# Altium schematic symbol library WR-WSP.SchLib: 25 symbols
Pins are listed as number, name and electrical type; pins without a type are passive.

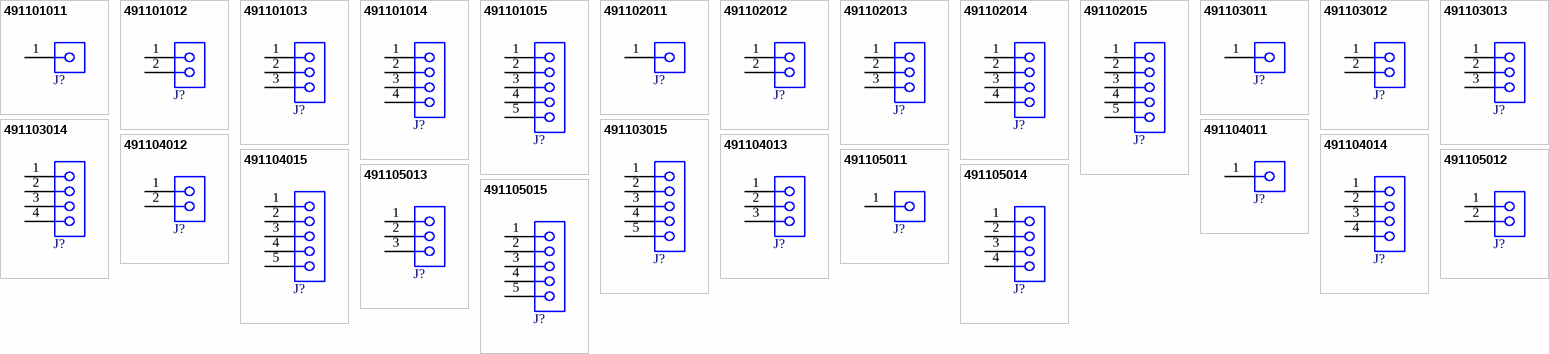
[diagram p0: symbols 491101011 to 491105015]

## 491101011
designator J?  (value not drawn)
WR-WSP Crimp SKEDD Housing, Insulator Black/ Red, PA66, 1p; Manufacturer: Wurth Elektronik; Insulation Resistance: 1000MOhm; Withstanding Voltage: 1800V (AC); Manufacturer Part Number: 491101011; Category: Wire-to-Board Connectors; Match Code: WR-WSP; ComponentLink1Description: Website Link; ComponentLink1URL: https://www.we-online.com/redexpert/article/491101011?ad; ComponentLink2Description: Datasheet Link; ComponentLink2URL: https://www.we-online.com/redexpert/spec/491101011?ad; Mount: SKEDD; Operating Temperature Max: 105°C; Operating Temperature Min: -25°C; Packaging: Bag; Length: 10mm; Width: 12mm; Height: 15mm; Insulator Color: Black/ Red; Insulator Material: PA66; Number of Pins: 1
footprint 49110x011
pins: 1

## 491101012
designator J?  (value not drawn)
WR-WSP Crimp SKEDD Housing, Insulator Black/ Red, PA66, 2p; Manufacturer: Wurth Elektronik; Insulation Resistance: 1000MOhm; Withstanding Voltage: 1800V (AC); Manufacturer Part Number: 491101012; Category: Wire-to-Board Connectors; Match Code: WR-WSP; ComponentLink1Description: Website Link; ComponentLink1URL: https://www.we-online.com/redexpert/article/491101012?ad; ComponentLink2Description: Datasheet Link; ComponentLink2URL: https://www.we-online.com/redexpert/spec/491101012?ad; Mount: SKEDD; Operating Temperature Max: 105°C; Operating Temperature Min: -25°C; Packaging: Bag; Length: 16mm; Width: 12mm; Height: 15mm; Insulator Color: Black/ Red; Insulator Material: PA66; Number of Pins: 2
footprint 49110x012
pins: 1, 2

## 491101013
designator J?  (value not drawn)
WR-WSP Crimp SKEDD Housing, Insulator Black/ Red, PA66, 3p; Manufacturer: Wurth Elektronik; Insulation Resistance: 1000MOhm; Withstanding Voltage: 1800V (AC); Manufacturer Part Number: 491101013; Category: Wire-to-Board Connectors; Match Code: WR-WSP; ComponentLink1Description: Website Link; ComponentLink1URL: https://www.we-online.com/redexpert/article/491101013?ad; ComponentLink2Description: Datasheet Link; ComponentLink2URL: https://www.we-online.com/redexpert/spec/491101013?ad; Mount: SKEDD; Operating Temperature Max: 105°C; Operating Temperature Min: -25°C; Packaging: Bag; Length: 22mm; Width: 12mm; Height: 15mm; Insulator Color: Black/ Red; Insulator Material: PA66; Number of Pins: 3
footprint 49110x013
pins: 1, 2, 3

## 491101014
designator J?  (value not drawn)
WR-WSP Crimp SKEDD Housing, Insulator Black/ Red, PA66, 4p; Manufacturer: Wurth Elektronik; Insulation Resistance: 1000MOhm; Withstanding Voltage: 1800V (AC); Manufacturer Part Number: 491101014; Category: Wire-to-Board Connectors; Match Code: WR-WSP; ComponentLink1Description: Website Link; ComponentLink1URL: https://www.we-online.com/redexpert/article/491101014?ad; ComponentLink2Description: Datasheet Link; ComponentLink2URL: https://www.we-online.com/redexpert/spec/491101014?ad; Mount: SKEDD; Operating Temperature Max: 105°C; Operating Temperature Min: -25°C; Packaging: Bag; Length: 28mm; Width: 12mm; Height: 15mm; Insulator Color: Black/ Red; Insulator Material: PA66; Number of Pins: 4
footprint 49110x014
pins: 1, 2, 3, 4

## 491101015
designator J?  (value not drawn)
WR-WSP Crimp SKEDD Housing, Insulator Black/ Red, PA66, 5p; Manufacturer: Wurth Elektronik; Insulation Resistance: 1000MOhm; Withstanding Voltage: 1800V (AC); Manufacturer Part Number: 491101015; Category: Wire-to-Board Connectors; Match Code: WR-WSP; ComponentLink1Description: Website Link; ComponentLink1URL: https://www.we-online.com/redexpert/article/491101015?ad; ComponentLink2Description: Datasheet Link; ComponentLink2URL: https://www.we-online.com/redexpert/spec/491101015?ad; Mount: SKEDD; Operating Temperature Max: 105°C; Operating Temperature Min: -25°C; Packaging: Bag; Length: 34mm; Width: 12mm; Height: 15mm; Insulator Color: Black/ Red; Insulator Material: PA66; Number of Pins: 5
footprint 49110x015
pins: 1, 2, 3, 4, 5

## 491102011
designator J?  (value not drawn)
WR-WSP Crimp SKEDD Housing, Insulator Black/ White, PA66, 1p; Manufacturer: Wurth Elektronik; Insulation Resistance: 1000MOhm; Withstanding Voltage: 1800V (AC); Manufacturer Part Number: 491102011; Category: Wire-to-Board Connectors; Match Code: WR-WSP; ComponentLink1Description: Website Link; ComponentLink1URL: https://www.we-online.com/redexpert/article/491102011?ad; ComponentLink2Description: Datasheet Link; ComponentLink2URL: https://www.we-online.com/redexpert/spec/491102011?ad; Mount: SKEDD; Operating Temperature Max: 105°C; Operating Temperature Min: -25°C; Packaging: Bag; Length: 10mm; Width: 12mm; Height: 15mm; Insulator Color: Black/ White; Insulator Material: PA66; Number of Pins: 1
footprint 49110x011
pins: 1

## 491102012
designator J?  (value not drawn)
WR-WSP Crimp SKEDD Housing, Insulator Black/ White, PA66, 2p; Manufacturer: Wurth Elektronik; Insulation Resistance: 1000MOhm; Withstanding Voltage: 1800V (AC); Manufacturer Part Number: 491102012; Category: Wire-to-Board Connectors; Match Code: WR-WSP; ComponentLink1Description: Website Link; ComponentLink1URL: https://www.we-online.com/redexpert/article/491102012?ad; ComponentLink2Description: Datasheet Link; ComponentLink2URL: https://www.we-online.com/redexpert/spec/491102012?ad; Mount: SKEDD; Operating Temperature Max: 105°C; Operating Temperature Min: -25°C; Packaging: Bag; Length: 16mm; Width: 12mm; Height: 15mm; Insulator Color: Black/ White; Insulator Material: PA66; Number of Pins: 2
footprint 49110x012
pins: 1, 2

## 491102013
designator J?  (value not drawn)
WR-WSP Crimp SKEDD Housing, Insulator Black/ White, PA66, 3p; Manufacturer: Wurth Elektronik; Insulation Resistance: 1000MOhm; Withstanding Voltage: 1800V (AC); Manufacturer Part Number: 491102013; Category: Wire-to-Board Connectors; Match Code: WR-WSP; ComponentLink1Description: Website Link; ComponentLink1URL: https://www.we-online.com/redexpert/article/491102013?ad; ComponentLink2Description: Datasheet Link; ComponentLink2URL: https://www.we-online.com/redexpert/spec/491102013?ad; Mount: SKEDD; Operating Temperature Max: 105°C; Operating Temperature Min: -25°C; Packaging: Bag; Length: 22mm; Width: 12mm; Height: 15mm; Insulator Color: Black/ White; Insulator Material: PA66; Number of Pins: 3
footprint 49110x013
pins: 1, 2, 3

## 491102014
designator J?  (value not drawn)
WR-WSP Crimp SKEDD Housing, Insulator Black/ White, PA66, 4p; Manufacturer: Wurth Elektronik; Insulation Resistance: 1000MOhm; Withstanding Voltage: 1800V (AC); Manufacturer Part Number: 491102014; Category: Wire-to-Board Connectors; Match Code: WR-WSP; ComponentLink1Description: Website Link; ComponentLink1URL: https://www.we-online.com/redexpert/article/491102014?ad; ComponentLink2Description: Datasheet Link; ComponentLink2URL: https://www.we-online.com/redexpert/spec/491102014?ad; Mount: SKEDD; Operating Temperature Max: 105°C; Operating Temperature Min: -25°C; Packaging: Bag; Length: 28mm; Width: 12mm; Height: 15mm; Insulator Color: Black/ White; Insulator Material: PA66; Number of Pins: 4
footprint 49110x014
pins: 1, 2, 3, 4

## 491102015
designator J?  (value not drawn)
WR-WSP Crimp SKEDD Housing, Insulator Black/ White, PA66, 5p; Manufacturer: Wurth Elektronik; Insulation Resistance: 1000MOhm; Withstanding Voltage: 1800V (AC); Manufacturer Part Number: 491102015; Category: Wire-to-Board Connectors; Match Code: WR-WSP; ComponentLink1Description: Website Link; ComponentLink1URL: https://www.we-online.com/redexpert/article/491102015?ad; ComponentLink2Description: Datasheet Link; ComponentLink2URL: https://www.we-online.com/redexpert/spec/491102015?ad; Mount: SKEDD; Operating Temperature Max: 105°C; Operating Temperature Min: -25°C; Packaging: Bag; Length: 34mm; Width: 12mm; Height: 15mm; Insulator Color: Black/ White; Insulator Material: PA66; Number of Pins: 5
footprint 49110x015
pins: 1, 2, 3, 4, 5

## 491103011
designator J?  (value not drawn)
WR-WSP Crimp SKEDD Housing, Insulator Black/ Blue, PA66, 1p; Manufacturer: Wurth Elektronik; Insulation Resistance: 1000MOhm; Withstanding Voltage: 1800V (AC); Manufacturer Part Number: 491103011; Category: Wire-to-Board Connectors; Match Code: WR-WSP; ComponentLink1Description: Website Link; ComponentLink1URL: https://www.we-online.com/redexpert/article/491103011?ad; ComponentLink2Description: Datasheet Link; ComponentLink2URL: https://www.we-online.com/redexpert/spec/491103011?ad; Mount: SKEDD; Operating Temperature Max: 105°C; Operating Temperature Min: -25°C; Packaging: Bag; Length: 10mm; Width: 12mm; Height: 15mm; Insulator Color: Black/ Blue; Insulator Material: PA66; Number of Pins: 1
footprint 49110x011
pins: 1

## 491103012
designator J?  (value not drawn)
WR-WSP Crimp SKEDD Housing, Insulator Black/ Blue, PA66, 2p; Manufacturer: Wurth Elektronik; Insulation Resistance: 1000MOhm; Withstanding Voltage: 1800V (AC); Manufacturer Part Number: 491103012; Category: Wire-to-Board Connectors; Match Code: WR-WSP; ComponentLink1Description: Website Link; ComponentLink1URL: https://www.we-online.com/redexpert/article/491103012?ad; ComponentLink2Description: Datasheet Link; ComponentLink2URL: https://www.we-online.com/redexpert/spec/491103012?ad; Mount: SKEDD; Operating Temperature Max: 105°C; Operating Temperature Min: -25°C; Packaging: Bag; Length: 16mm; Width: 12mm; Height: 15mm; Insulator Color: Black/ Blue; Insulator Material: PA66; Number of Pins: 2
footprint 49110x012
pins: 1, 2

## 491103013
designator J?  (value not drawn)
WR-WSP Crimp SKEDD Housing, Insulator Black/ Blue, PA66, 3p; Manufacturer: Wurth Elektronik; Insulation Resistance: 1000MOhm; Withstanding Voltage: 1800V (AC); Manufacturer Part Number: 491103013; Category: Wire-to-Board Connectors; Match Code: WR-WSP; ComponentLink1Description: Website Link; ComponentLink1URL: https://www.we-online.com/redexpert/article/491103013?ad; ComponentLink2Description: Datasheet Link; ComponentLink2URL: https://www.we-online.com/redexpert/spec/491103013?ad; Mount: SKEDD; Operating Temperature Max: 105°C; Operating Temperature Min: -25°C; Packaging: Bag; Length: 22mm; Width: 12mm; Height: 15mm; Insulator Color: Black/ Blue; Insulator Material: PA66; Number of Pins: 3
footprint 49110x013
pins: 1, 2, 3

## 491103014
designator J?  (value not drawn)
WR-WSP Crimp SKEDD Housing, Insulator Black/ Blue, PA66, 4p; Manufacturer: Wurth Elektronik; Insulation Resistance: 1000MOhm; Withstanding Voltage: 1800V (AC); Manufacturer Part Number: 491103014; Category: Wire-to-Board Connectors; Match Code: WR-WSP; ComponentLink1Description: Website Link; ComponentLink1URL: https://www.we-online.com/redexpert/article/491103014?ad; ComponentLink2Description: Datasheet Link; ComponentLink2URL: https://www.we-online.com/redexpert/spec/491103014?ad; Mount: SKEDD; Operating Temperature Max: 105°C; Operating Temperature Min: -25°C; Packaging: Bag; Length: 28mm; Width: 12mm; Height: 15mm; Insulator Color: Black/ Blue; Insulator Material: PA66; Number of Pins: 4
footprint 49110x014
pins: 1, 2, 3, 4

## 491103015
designator J?  (value not drawn)
WR-WSP Crimp SKEDD Housing, Insulator Black/ Blue, PA66, 5p; Manufacturer: Wurth Elektronik; Insulation Resistance: 1000MOhm; Withstanding Voltage: 1800V (AC); Manufacturer Part Number: 491103015; Category: Wire-to-Board Connectors; Match Code: WR-WSP; ComponentLink1Description: Website Link; ComponentLink1URL: https://www.we-online.com/redexpert/article/491103015?ad; ComponentLink2Description: Datasheet Link; ComponentLink2URL: https://www.we-online.com/redexpert/spec/491103015?ad; Mount: SKEDD; Operating Temperature Max: 105°C; Operating Temperature Min: -25°C; Packaging: Bag; Length: 34mm; Width: 12mm; Height: 15mm; Insulator Color: Black/ Blue; Insulator Material: PA66; Number of Pins: 5
footprint 49110x015
pins: 1, 2, 3, 4, 5

## 491104011
designator J?  (value not drawn)
WR-WSP Crimp SKEDD Housing, Insulator Black/ Yellow, PA66, 1p; Manufacturer: Wurth Elektronik; Insulation Resistance: 1000MOhm; Withstanding Voltage: 1800V (AC); Manufacturer Part Number: 491104011; Category: Wire-to-Board Connectors; Match Code: WR-WSP; ComponentLink1Description: Website Link; ComponentLink1URL: https://www.we-online.com/redexpert/article/491104011?ad; ComponentLink2Description: Datasheet Link; ComponentLink2URL: https://www.we-online.com/redexpert/spec/491104011?ad; Mount: SKEDD; Operating Temperature Max: 105°C; Operating Temperature Min: -25°C; Packaging: Bag; Length: 10mm; Width: 12mm; Height: 15mm; Insulator Color: Black/ Yellow; Insulator Material: PA66; Number of Pins: 1
footprint 49110x011
pins: 1

## 491104012
designator J?  (value not drawn)
WR-WSP Crimp SKEDD Housing, Insulator Black/ Yellow, PA66, 2p; Manufacturer: Wurth Elektronik; Insulation Resistance: 1000MOhm; Withstanding Voltage: 1800V (AC); Manufacturer Part Number: 491104012; Category: Wire-to-Board Connectors; Match Code: WR-WSP; ComponentLink1Description: Website Link; ComponentLink1URL: https://www.we-online.com/redexpert/article/491104012?ad; ComponentLink2Description: Datasheet Link; ComponentLink2URL: https://www.we-online.com/redexpert/spec/491104012?ad; Mount: SKEDD; Operating Temperature Max: 105°C; Operating Temperature Min: -25°C; Packaging: Bag; Length: 16mm; Width: 12mm; Height: 15mm; Insulator Color: Black/ Yellow; Insulator Material: PA66; Number of Pins: 2
footprint 49110x012
pins: 1, 2

## 491104013
designator J?  (value not drawn)
WR-WSP Crimp SKEDD Housing, Insulator Black/ Yellow, PA66, 3p; Manufacturer: Wurth Elektronik; Insulation Resistance: 1000MOhm; Withstanding Voltage: 1800V (AC); Manufacturer Part Number: 491104013; Category: Wire-to-Board Connectors; Match Code: WR-WSP; ComponentLink1Description: Website Link; ComponentLink1URL: https://www.we-online.com/redexpert/article/491104013?ad; ComponentLink2Description: Datasheet Link; ComponentLink2URL: https://www.we-online.com/redexpert/spec/491104013?ad; Mount: SKEDD; Operating Temperature Max: 105°C; Operating Temperature Min: -25°C; Packaging: Bag; Length: 22mm; Width: 12mm; Height: 15mm; Insulator Color: Black/ Yellow; Insulator Material: PA66; Number of Pins: 3
footprint 49110x013
pins: 1, 2, 3

## 491104014
designator J?  (value not drawn)
WR-WSP Crimp SKEDD Housing, Insulator Black/ Yellow, PA66, 4p; Manufacturer: Wurth Elektronik; Insulation Resistance: 1000MOhm; Withstanding Voltage: 1800V (AC); Manufacturer Part Number: 491104014; Category: Wire-to-Board Connectors; Match Code: WR-WSP; ComponentLink1Description: Website Link; ComponentLink1URL: https://www.we-online.com/redexpert/article/491104014?ad; ComponentLink2Description: Datasheet Link; ComponentLink2URL: https://www.we-online.com/redexpert/spec/491104014?ad; Mount: SKEDD; Operating Temperature Max: 105°C; Operating Temperature Min: -25°C; Packaging: Bag; Length: 28mm; Width: 12mm; Height: 15mm; Insulator Color: Black/ Yellow; Insulator Material: PA66; Number of Pins: 4
footprint 49110x014
pins: 1, 2, 3, 4

## 491104015
designator J?  (value not drawn)
WR-WSP Crimp SKEDD Housing, Insulator Black/ Yellow, PA66, 5p; Manufacturer: Wurth Elektronik; Insulation Resistance: 1000MOhm; Withstanding Voltage: 1800V (AC); Manufacturer Part Number: 491104015; Category: Wire-to-Board Connectors; Match Code: WR-WSP; ComponentLink1Description: Website Link; ComponentLink1URL: https://www.we-online.com/redexpert/article/491104015?ad; ComponentLink2Description: Datasheet Link; ComponentLink2URL: https://www.we-online.com/redexpert/spec/491104015?ad; Mount: SKEDD; Operating Temperature Max: 105°C; Operating Temperature Min: -25°C; Packaging: Bag; Length: 34mm; Width: 12mm; Height: 15mm; Insulator Color: Black/ Yellow; Insulator Material: PA66; Number of Pins: 5
footprint 49110x015
pins: 1, 2, 3, 4, 5

## 491105011
designator J?  (value not drawn)
WR-WSP Crimp SKEDD Housing, Insulator Black/ Black, PA66, 1p; Manufacturer: Wurth Elektronik; Insulation Resistance: 1000MOhm; Withstanding Voltage: 1800V (AC); Manufacturer Part Number: 491105011; Category: Wire-to-Board Connectors; Match Code: WR-WSP; ComponentLink1Description: Website Link; ComponentLink1URL: https://www.we-online.com/redexpert/article/491105011?ad; ComponentLink2Description: Datasheet Link; ComponentLink2URL: https://www.we-online.com/redexpert/spec/491105011?ad; Mount: SKEDD; Operating Temperature Max: 105°C; Operating Temperature Min: -25°C; Packaging: Bag; Length: 10mm; Width: 12mm; Height: 15mm; Insulator Color: Black/ Black; Insulator Material: PA66; Number of Pins: 1
footprint 49110x011
pins: 1

## 491105012
designator J?  (value not drawn)
WR-WSP Crimp SKEDD Housing, Insulator Black/ Black, PA66, 2p; Manufacturer: Wurth Elektronik; Insulation Resistance: 1000MOhm; Withstanding Voltage: 1800V (AC); Manufacturer Part Number: 491105012; Category: Wire-to-Board Connectors; Match Code: WR-WSP; ComponentLink1Description: Website Link; ComponentLink1URL: https://www.we-online.com/redexpert/article/491105012?ad; ComponentLink2Description: Datasheet Link; ComponentLink2URL: https://www.we-online.com/redexpert/spec/491105012?ad; Mount: SKEDD; Operating Temperature Max: 105°C; Operating Temperature Min: -25°C; Packaging: Bag; Length: 16mm; Width: 12mm; Height: 15mm; Insulator Color: Black/ Black; Insulator Material: PA66; Number of Pins: 2
footprint 49110x012
pins: 1, 2

## 491105013
designator J?  (value not drawn)
WR-WSP Crimp SKEDD Housing, Insulator Black/ Black, PA66, 3p; Manufacturer: Wurth Elektronik; Insulation Resistance: 1000MOhm; Withstanding Voltage: 1800V (AC); Manufacturer Part Number: 491105013; Category: Wire-to-Board Connectors; Match Code: WR-WSP; ComponentLink1Description: Website Link; ComponentLink1URL: https://www.we-online.com/redexpert/article/491105013?ad; ComponentLink2Description: Datasheet Link; ComponentLink2URL: https://www.we-online.com/redexpert/spec/491105013?ad; Mount: SKEDD; Operating Temperature Max: 105°C; Operating Temperature Min: -25°C; Packaging: Bag; Length: 22mm; Width: 12mm; Height: 15mm; Insulator Color: Black/ Black; Insulator Material: PA66; Number of Pins: 3
footprint 49110x013
pins: 1, 2, 3

## 491105014
designator J?  (value not drawn)
WR-WSP Crimp SKEDD Housing, Insulator Black/ Black, PA66, 4p; Manufacturer: Wurth Elektronik; Insulation Resistance: 1000MOhm; Withstanding Voltage: 1800V (AC); Manufacturer Part Number: 491105014; Category: Wire-to-Board Connectors; Match Code: WR-WSP; ComponentLink1Description: Website Link; ComponentLink1URL: https://www.we-online.com/redexpert/article/491105014?ad; ComponentLink2Description: Datasheet Link; ComponentLink2URL: https://www.we-online.com/redexpert/spec/491105014?ad; Mount: SKEDD; Operating Temperature Max: 105°C; Operating Temperature Min: -25°C; Packaging: Bag; Length: 28mm; Width: 12mm; Height: 15mm; Insulator Color: Black/ Black; Insulator Material: PA66; Number of Pins: 4
footprint 49110x014
pins: 1, 2, 3, 4

## 491105015
designator J?  (value not drawn)
WR-WSP Crimp SKEDD Housing, Insulator Black/ Black, PA66, 5p; Manufacturer: Wurth Elektronik; Insulation Resistance: 1000MOhm; Withstanding Voltage: 1800V (AC); Manufacturer Part Number: 491105015; Category: Wire-to-Board Connectors; Match Code: WR-WSP; ComponentLink1Description: Website Link; ComponentLink1URL: https://www.we-online.com/redexpert/article/491105015?ad; ComponentLink2Description: Datasheet Link; ComponentLink2URL: https://www.we-online.com/redexpert/spec/491105015?ad; Mount: SKEDD; Operating Temperature Max: 105°C; Operating Temperature Min: -25°C; Packaging: Bag; Length: 34mm; Width: 12mm; Height: 15mm; Insulator Color: Black/ Black; Insulator Material: PA66; Number of Pins: 5
footprint 49110x015
pins: 1, 2, 3, 4, 5